# EAGLE library part POLOLU_DRV8833 (library brickster)
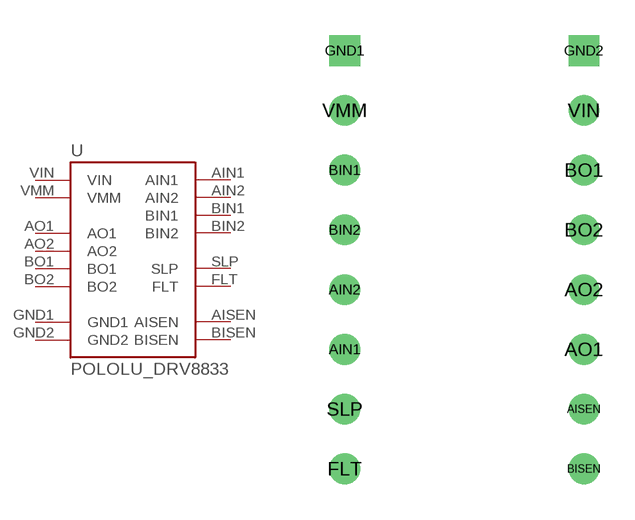
[diagram p2: symbol with the pads of POLOLU_DRV8833; footprint POLOLU_DRV8833]

Designator prefix U

## POLOLU_DRV8833  [POLOLU_DRV8833]
AIN1  AIN1
AIN2  AIN2
AISEN  AISEN
AO1  AO1
AO2  AO2
BIN1  BIN1
BIN2  BIN2
BISEN  BISEN
BO1  BO1
BO2  BO2
FLT  FLT
GND1  GND1
GND2  GND2
SLP  SLP
VIN  VIN
VMM  VMM

## Footprint POLOLU_DRV8833 (pad centres in mm)
drill 0.8: AIN1 -5.08,-3.81; AIN2 -5.08,-1.27; AISEN 5.08,-6.35; AO1 5.08,-3.81; AO2 5.08,-1.27; BIN1 -5.08,3.81; BIN2 -5.08,1.27; BISEN 5.08,-8.89; BO1 5.08,3.81; BO2 5.08,1.27; FLT -5.08,-8.89; SLP -5.08,-6.35; VIN 5.08,6.35; VMM -5.08,6.35
drill 0.8 square: GND1 -5.08,8.89; GND2 5.08,8.89